# Altium integrated library MAX5438EUB_.IntLib: 1 symbol
Pins are listed as number, name and electrical type; pins without a type are passive.

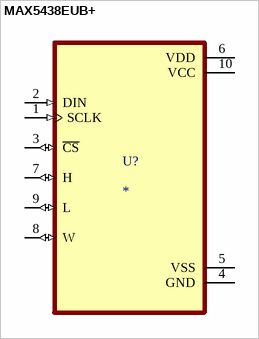
[diagram p0: symbol MAX5438EUB+]

## MAX5438EUB+
designator U?
MF: {'manufacturer': u'Analog Devices Inc./Maxim Integrated'}; MP: MAX5438EUB+; Package: None; Price: None; Value: *; Availability: Unavailable
footprint SOP50P490X110-10N
pins: 1 SCLK (in), 2 DIN (in), 3 ~{CS} (io), 4 GND (power), 5 VSS (power), 6 VDD (power), 7 H (io), 8 W (io), 9 L (io), 10 VCC (power)